# EAGLE library part TL081 (library chuong)
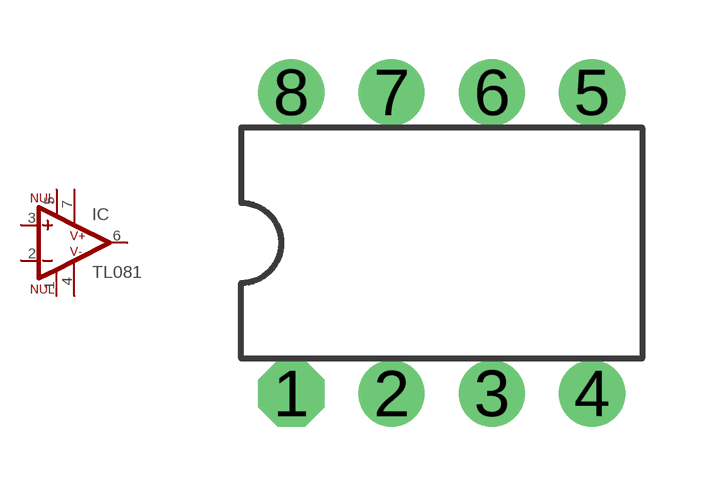
[diagram p28: symbol with the pads of DIL-8; footprint DIL-8]

Designator prefix IC

## TL081  [DIL-8]
1  NUL-2  pwr
2  -IN  in
3  +IN  in
4  V-  pwr
5  NUL-1  pwr
6  OUT  out
7  V+  pwr

## Footprint DIL-8 (pad centres in mm)
drill 0.61 pad 1.676 octagon: 1 -3.81,-3.81
drill 0.61 pad 1.676 round: 2 -1.27,-3.81; 3 1.27,-3.81; 4 3.81,-3.81; 5 3.81,3.81; 6 1.27,3.81; 7 -1.27,3.81; 8 -3.81,3.81